# EAGLE library part HTSW-108-08-T-S-RA (library FM Transmitter-M5 Stick C Plus edition)
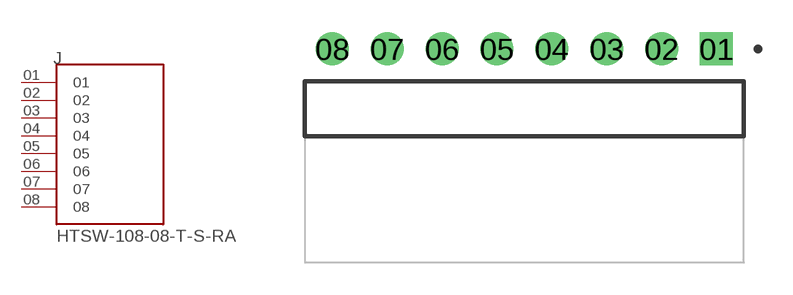
[diagram p0: symbol with the pads of SAMTEC_HTSW-108-08-T-S-RA; footprint SAMTEC_HTSW-108-08-T-S-RA]

Designator prefix J

## HTSW-108-08-T-S-RA (MANUFACTURER: Samtec; PARTREV: R; STANDARD: Manufacturer Recommendations)  [SAMTEC_HTSW-108-08-T-S-RA]
01  01  pas
02  02  pas
03  03  pas
04  04  pas
05  05  pas
06  06  pas
07  07  pas
08  08  pas

## Footprint SAMTEC_HTSW-108-08-T-S-RA (pad centres in mm)
drill 1.02 pad 1.37 square: 01 8.89,2.77
drill 1.02 pad 1.37: 02 6.35,2.77; 03 3.81,2.77; 04 1.27,2.77; 05 -1.27,2.77; 06 -3.81,2.77; 07 -6.35,2.77; 08 -8.89,2.77